# EAGLE library part AT93C46EN-SH-B (library atmel)
Three-wire Serial EEPROM,SOIC-8
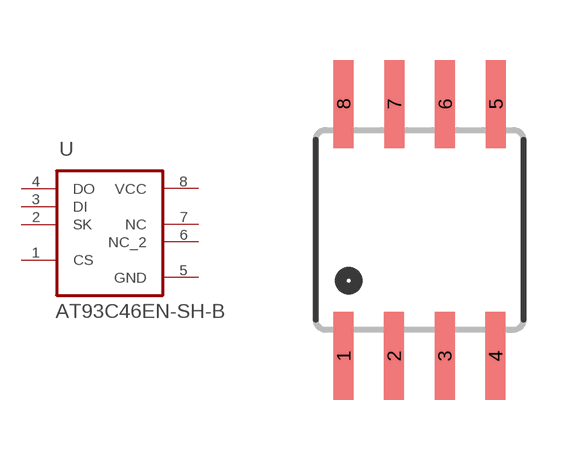
[diagram p2: symbol with the pads of SOIC8; footprint SOIC8]

Designator prefix U

## AT93C46EN-SH-BSOIC8  [SOIC8]
1  CS  in
2  SK  in
3  DI  in
4  DO  out
5  GND  pas
6  NC_2  nc
7  NC  nc
8  VCC  pwr

## Footprint SOIC8 (pad centres in mm)
Wide Plastic Gull Wing Small Outline Package
smd 0.5 x 2.2: 1 -1.905,-3.154; 2 -0.645,-3.154; 3 0.625,-3.154; 4 1.895,-3.154; 5 1.905,3.154; 6 0.635,3.154; 7 -0.635,3.154; 8 -1.905,3.154